# Altium schematic symbol library LAB10.SchLib: 4 symbols
Pins are listed as number, name and electrical type; pins without a type are passive.

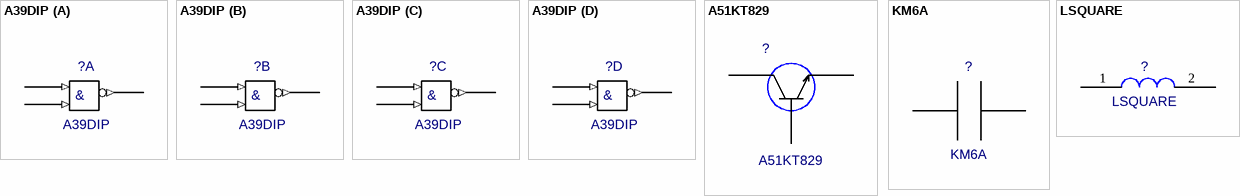
[diagram p0: symbols A39DIP to LSQUARE]

## A39DIP
designator ?
Value: *
footprint A39DIP
pins on every part: 7 GND (power) hidden, 14 Vcc (power) hidden
part A pins: 1 & (in), 2 (in), 3 (out)
part B pins: 4 (out), 5 (in), 6 (in)
part C pins: 8 (in), 9 (in), 10 (out)
part D pins: 11 (out), 12 (in), 13 (in)

## A51KT829
designator ?
Value: *
footprint A51KT829_A51KT829(Primary)
pins: 1, 2, 3

## KM6A
designator ?
Value: *
footprint KM6A
pins: 1 2, 2 1

## LSQUARE
designator ?
Value: *
footprint LSQUARE
pins: 1, 2